# Altium schematic symbol library Socket 3.SchLib: 1 symbol
Pins are listed as number, name and electrical type; pins without a type are passive.

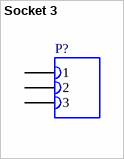
[diagram p0: symbol Socket 3]

## Socket 3
designator P?
Socket, 3-Pin
pins: 1, 2, 3